# Altium footprint library Solar_cell.PcbLib: 5 footprints
Each footprint in its own frame and in the unit in brackets; x right, y up, seen from the top. Pads: shape width x height; smd on the part's side, far side on the other; paste and mask are expansions set on the pad; w line width, h text height; cw(c..) or ccw(c..) is an arc to the next point about the centre after c.
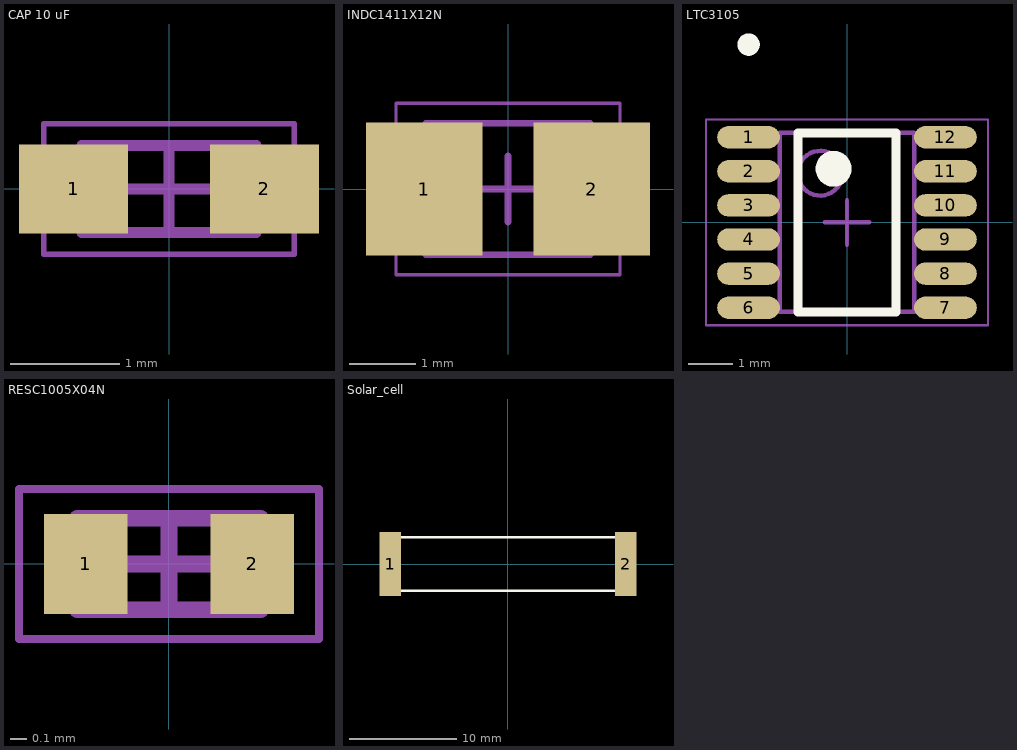
[diagram p0: the footprints below, top view; thin cyan lines are the x and y axes]

## CAP 10 uF [mm] "Chip Capacitor, 2-Leads, Body 0.90x0.48mm, IPC Medium Density"
height 0.8
pads (2):
  rect 1x0.82 smd: 1(-0.875,0) 2(0.875,0)
Mechanical 13:
  lines w0.1: -0.8,-0.4 0.8,-0.4 0.8,0.4 -0.8,0.4 -0.8,-0.4
Mechanical 15:
  lines w0.05: -1.15,-0.6 1.15,-0.6 1.15,0.6 -1.15,0.6 -1.15,-0.6
  lines w0.1: -0.4,0 0.4,0 ; 0,-0.4 0,0.4
3D body: height 0.8, standoff 0, extent 0.32,-0.4 0.8,0.4
3D body: height 0.8, standoff 0, extent -0.8,-0.4 -0.32,0.4
3D body: height 0.8, standoff 0, extent -0.32,-0.4 0.32,0.4

## INDC1411X12N [mm] "Chip Inductor, 2-Leads, Body 1.35x1.10mm, IPC Medium Density"
height 1.2
pads (2):
  rect 1.77x2.01 smd: 1(-1.27,0) 2(1.27,0)
Mechanical 13:
  lines w0.1: -1.25,-1 -1.25,1 1.25,1 1.25,-1 -1.25,-1
Mechanical 15:
  lines w0.05: -1.7,-1.3 -1.7,1.3 1.7,1.3 1.7,-1.3 -1.7,-1.3
  lines w0.1: -0.5,0 0.5,0 ; 0,-0.5 0,0.5
3D body: height 1.2, standoff 0, extent -0.85,-1 0.85,1
3D body: height 1.2, standoff 0, extent -1.25,-1 -0.85,1
3D body: height 1.2, standoff 0, extent 0.85,-1 1.25,1

## LTC3105 [mm] "SOIC, 12-Leads, Body 2.07x1.55mm, Pitch 1.27mm, IPC Medium Density"
height 1.1
pads (12):
  oval 1.4x0.5 smd: 1(-2.2,1.905) 2(-2.2,1.143) 3(-2.2,0.381) 4(-2.2,-0.381) 5(-2.2,-1.143) 6(-2.2,-1.905) 7(2.2,-1.905) 8(2.2,-1.143) 9(2.2,-0.381) 10(2.2,0.381) 11(2.2,1.143) 12(2.2,1.905)
Top Overlay:
  circle w0.4: c-0.3,1.2 r0.2
  circle w0.25: c-2.2,3.975 r0.125
  lines w0.2: -1.1,-2 1.1,-2 1.1,2 -1.1,2 -1.1,-2
Mechanical 13:
  circle w0.1: c-0.6,1.1 r0.5
  lines w0.1: -1.5,-2 1.5,-2 1.5,2 -1.5,2 -1.5,-2
Mechanical 15:
  lines w0.05: -3.15,-2.3 3.15,-2.3 3.15,2.3 -3.15,2.3 -3.15,-2.3
  lines w0.1: -0.5,0 0.5,0 ; 0,-0.5 0,0.5
3D body: height 1.1, standoff 0.1, extent -1.5,-2 1.5,2

## RESC1005X04N [mm] "Chip Resistor, 2-Leads, Body 1.00x0.50mm, IPC Medium Density"
height 0.4
pads (2):
  rect 0.5x0.6 smd: 1(-0.5,0) 2(0.5,0)
Mechanical 13:
  lines w0.1: -0.55,-0.275 -0.55,0.275 0.55,0.275 0.55,-0.275 -0.55,-0.275
Mechanical 15:
  lines w0.05: -0.9,-0.45 -0.9,0.45 0.9,0.45 0.9,-0.45 -0.9,-0.45
  lines w0.1: -0.275,0 0.275,0 ; 0,-0.275 0,0.275
3D body "RESC1005X04N.step": height 0.4, standoff 0, extent -0.55,-0.275 0.55,0.275

## Solar_cell [mm]
pads (2):
  rect 2x6 smd: 1(-11,0) 2(11,0)
Top Overlay:
  lines w0.2: -11.5,-2.5 -11.5,0 -11.5,2.5 11.5,2.5 11.5,-2.5 -11.5,-2.5